# EAGLE library part F5419/36/38---ZQW113 (library MSP430F5xxx)
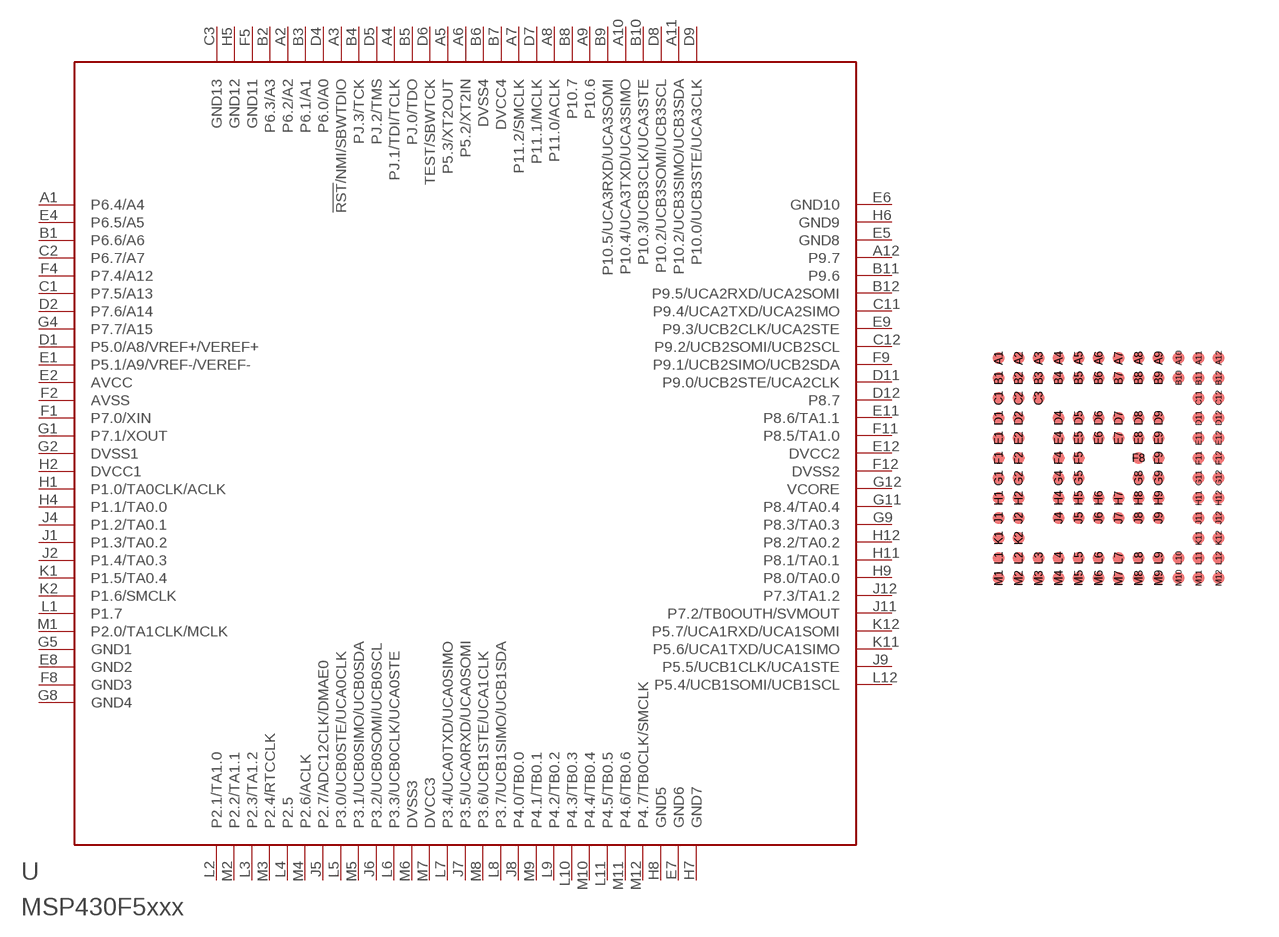
[diagram p3: symbol with the pads of ZQW113; footprint ZQW113]

Designator prefix -

## F5419/36/38---ZQW113  [ZQW113]
A1  P6.4/A4
A2  P6.2/A2
A3  !RST!/NMI/SBWTDIO
A4  PJ.1/TDI/TCLK
A5  P5.3/XT2OUT
A6  P5.2/XT2IN
A7  P11.2/SMCLK
A8  P11.0/ACLK
A9  P10.6
A10  P10.4/UCA3TXD/UCA3SIMO
A11  P10.2/UCB3SIMO/UCB3SDA
A12  P9.7
B1  P6.6/A6
B2  P6.3/A3
B3  P6.1/A1
B4  PJ.3/TCK
B5  PJ.0/TDO
B6  DVSS4  pwr
B7  DVCC4  pwr
B8  P10.7
B9  P10.5/UCA3RXD/UCA3SOMI
B10  P10.3/UCB3CLK/UCA3STE
B11  P9.6
B12  P9.5/UCA2RXD/UCA2SOMI
C1  P7.5/A13
C2  P6.7/A7
C3  GND13  pwr
C11  P9.4/UCA2TXD/UCA2SIMO
C12  P9.2/UCB2SOMI/UCB2SCL
D1  P5.0/A8/VREF+/VEREF+
D2  P7.6/A14
D4  P6.0/A0
D5  PJ.2/TMS
D6  TEST/SBWTCK
D7  P11.1/MCLK
D8  P10.2/UCB3SOMI/UCB3SCL
D9  P10.0/UCB3STE/UCA3CLK
D11  P9.0/UCB2STE/UCA2CLK
D12  P8.7
E1  P5.1/A9/VREF-/VEREF-
E2  AVCC  pwr
E4  P6.5/A5
E5  GND8  pwr
E6  GND10  pwr
E7  GND6  pwr
E8  GND2  pwr
E9  P9.3/UCB2CLK/UCA2STE
E11  P8.6/TA1.1
E12  DVCC2  pwr
F1  P7.0/XIN
F2  AVSS  pwr
F4  P7.4/A12
F5  GND11  pwr
F8  GND3  pwr
F9  P9.1/UCB2SIMO/UCB2SDA
F11  P8.5/TA1.0
F12  DVSS2  pwr
G1  P7.1/XOUT
G2  DVSS1  pwr
G4  P7.7/A15
G5  GND1  pwr
G8  GND4  pwr
G9  P8.3/TA0.3
G11  P8.4/TA0.4
G12  VCORE  pwr
H1  P1.0/TA0CLK/ACLK
H2  DVCC1  pwr
H4  P1.1/TA0.0
H5  GND12  pwr
H6  GND9  pwr
H7  GND7  pwr
H8  GND5  pwr
H9  P8.0/TA0.0
H11  P8.1/TA0.1
H12  P8.2/TA0.2
J1  P1.3/TA0.2
J2  P1.4/TA0.3
J4  P1.2/TA0.1
J5  P2.7/ADC12CLK/DMAE0
J6  P3.2/UCB0SOMI/UCB0SCL
J7  P3.5/UCA0RXD/UCA0SOMI
J8  P4.0/TB0.0
J9  P5.5/UCB1CLK/UCA1STE
J11  P7.2/TB0OUTH/SVMOUT
J12  P7.3/TA1.2
K1  P1.5/TA0.4
K2  P1.6/SMCLK
K11  P5.6/UCA1TXD/UCA1SIMO
K12  P5.7/UCA1RXD/UCA1SOMI
L1  P1.7
L2  P2.1/TA1.0
L3  P2.3/TA1.2
L4  P2.5
L5  P3.0/UCB0STE/UCA0CLK
L6  P3.3/UCB0CLK/UCA0STE
L7  P3.4/UCA0TXD/UCA0SIMO
L8  P3.7/UCB1SIMO/UCB1SDA
L9  P4.2/TB0.2
L10  P4.3/TB0.3
L11  P4.5/TB0.5
L12  P5.4/UCB1SOMI/UCB1SCL
M1  P2.0/TA1CLK/MCLK
M2  P2.2/TA1.1
M3  P2.4/RTCCLK
M4  P2.6/ACLK
M5  P3.1/UCB0SIMO/UCB0SDA
M6  DVSS3  pwr
M7  DVCC3  pwr
M8  P3.6/UCB1STE/UCA1CLK
M9  P4.1/TB0.1
M10  P4.4/TB0.4
M11  P4.6/TB0.6
M12  P4.7/TB0CLK/SMCLK

## Footprint ZQW113 (pad centres in mm)
ZQW113 BGA package; 0.5mm pitch
smd 0.3 x 0.3: A1 0.75,6.25; A2 1.25,6.25; A3 1.75,6.25; A4 2.25,6.25; A5 2.75,6.25; A6 3.25,6.25; A7 3.75,6.25; A8 4.25,6.25; A9 4.75,6.25; A10 5.25,6.25; A11 5.75,6.25; A12 6.25,6.25; B1 0.75,5.75; B2 1.25,5.75; B3 1.75,5.75; B4 2.25,5.75; B5 2.75,5.75; B6 3.25,5.75; B7 3.75,5.75; B8 4.25,5.75; B9 4.75,5.75; B10 5.25,5.75; B11 5.75,5.75; B12 6.25,5.75; C1 0.75,5.25; C2 1.25,5.25; C3 1.75,5.25; C11 5.75,5.25; C12 6.25,5.25; D1 0.75,4.75; D2 1.25,4.75; D4 2.25,4.75; D5 2.75,4.75; D6 3.25,4.75; D7 3.75,4.75; D8 4.25,4.75; D9 4.75,4.75; D11 5.75,4.75; D12 6.25,4.75; E1 0.75,4.25; E2 1.25,4.25; E4 2.25,4.25; E5 2.75,4.25; E6 3.25,4.25; E7 3.75,4.25; E8 4.25,4.25; E9 4.75,4.25; E11 5.75,4.25; E12 6.25,4.25; F1 0.75,3.75; F2 1.25,3.75; F4 2.25,3.75; F5 2.75,3.75; F8 4.25,3.75; F9 4.75,3.75; F11 5.75,3.75; F12 6.25,3.75; G1 0.75,3.25; G2 1.25,3.25; G4 2.25,3.25; G5 2.75,3.25; G8 4.25,3.25; G9 4.75,3.25; G11 5.75,3.25; G12 6.25,3.25; H1 0.75,2.75; H2 1.25,2.75; H4 2.25,2.75; H5 2.75,2.75; H6 3.25,2.75; H7 3.75,2.75; H8 4.25,2.75; H9 4.75,2.75; H11 5.75,2.75; H12 6.25,2.75; J1 0.75,2.25; J2 1.25,2.25; J4 2.25,2.25; J5 2.75,2.25; J6 3.25,2.25; J7 3.75,2.25; J8 4.25,2.25; J9 4.75,2.25; J11 5.75,2.25; J12 6.25,2.25; K1 0.75,1.75; K2 1.25,1.75; K11 5.75,1.75; K12 6.25,1.75; L1 0.75,1.25; L2 1.25,1.25; L3 1.75,1.25; L4 2.25,1.25; L5 2.75,1.25; L6 3.25,1.25; L7 3.75,1.25; L8 4.25,1.25; L9 4.75,1.25; L10 5.25,1.25; L11 5.75,1.25; L12 6.25,1.25; M1 0.75,0.75; M2 1.25,0.75; M3 1.75,0.75; M4 2.25,0.75; M5 2.75,0.75; M6 3.25,0.75; M7 3.75,0.75; M8 4.25,0.75; M9 4.75,0.75; M10 5.25,0.75; M11 5.75,0.75; M12 6.25,0.75